# Altium schematic symbol library M57182N-315.SchLib: 1 symbol
Pins are listed as number, name and electrical type; pins without a type are passive.

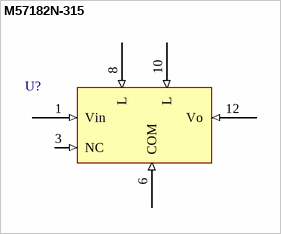
[diagram p0: symbol M57182N-315]

## M57182N-315
designator U?
pins: 1 Vin (in), 3 NC (in), 6 COM (in), 8 L (in), 10 L (in), 12 Vo (in)